# Altium schematic symbol library Switch.SchLib: 11 symbols
Pins are listed as number, name and electrical type; pins without a type are passive.

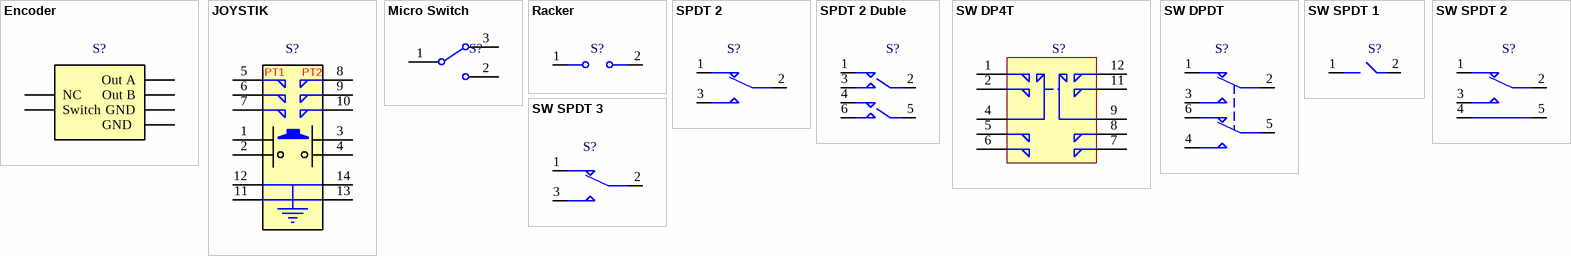
[diagram p0: symbols Encoder to SW SPDT 3]

## Encoder
designator S?
DatasheetVersion: 2022
pins: 0 NC, 1 Out A, 2 Out B, 3 GND , 4 GND, 5 Switch

## JOYSTIK
designator S?
DatasheetVersion: 2022
pins: 1, 2, 3, 4, 5, 6, 7, 8, 9, 10, 11, 12, 13, 14
text: PT1; PT2

## Micro Switch
designator S?
ComponentLinkp-URL: https://www.smartw.ir/; DatasheetVersion: 2022
pins: 1, 2, 3

## Racker
designator S?
DatasheetVersion: 2022
pins: 1 Button, 2

## SPDT 2
designator S?
Toggle SPDT Switch without Body Hole; DatasheetVersion: 2022
pins: 1, 2, 3

## SPDT 2 Duble
designator S?
Toggle SPDT Switch without Body Hole; DatasheetVersion: 2022
pins: 1, 2, 3, 4, 5, 6

## SW DP4T
designator S?
DP4T Slide Switch; DatasheetVersion: 2022
pins: 1, 2, 4, 5, 6, 7, 8, 9, 11, 12

## SW DPDT
designator S?
DPDT Switch; DatasheetVersion: 2022
pins: 1, 2, 3, 4, 5, 6

## SW SPDT 1
designator S?
Toggle SPDT Switch with Body Hole; DatasheetVersion: 2022
pins: 1, 2

## SW SPDT 2
designator S?
Toggle SPDT Switch with Body Hole; DatasheetVersion: 2022
pins: 1, 2, 3, 4 (power), 5 (power)

## SW SPDT 3
designator S?
Toggle SPDT Switch with Body Hole; DatasheetVersion: 2022
pins: 1, 2, 3